# Altium footprint library BLDC_Motor_Driver.PcbLib: 122 footprints (part 8 of 8)
Each footprint in its own frame and in the unit in brackets; x right, y up, seen from the top. Pads: shape width x height; smd on the part's side, far side on the other; paste and mask are expansions set on the pad; w line width, h text height; cw(c..) or ccw(c..) is an arc to the next point about the centre after c.
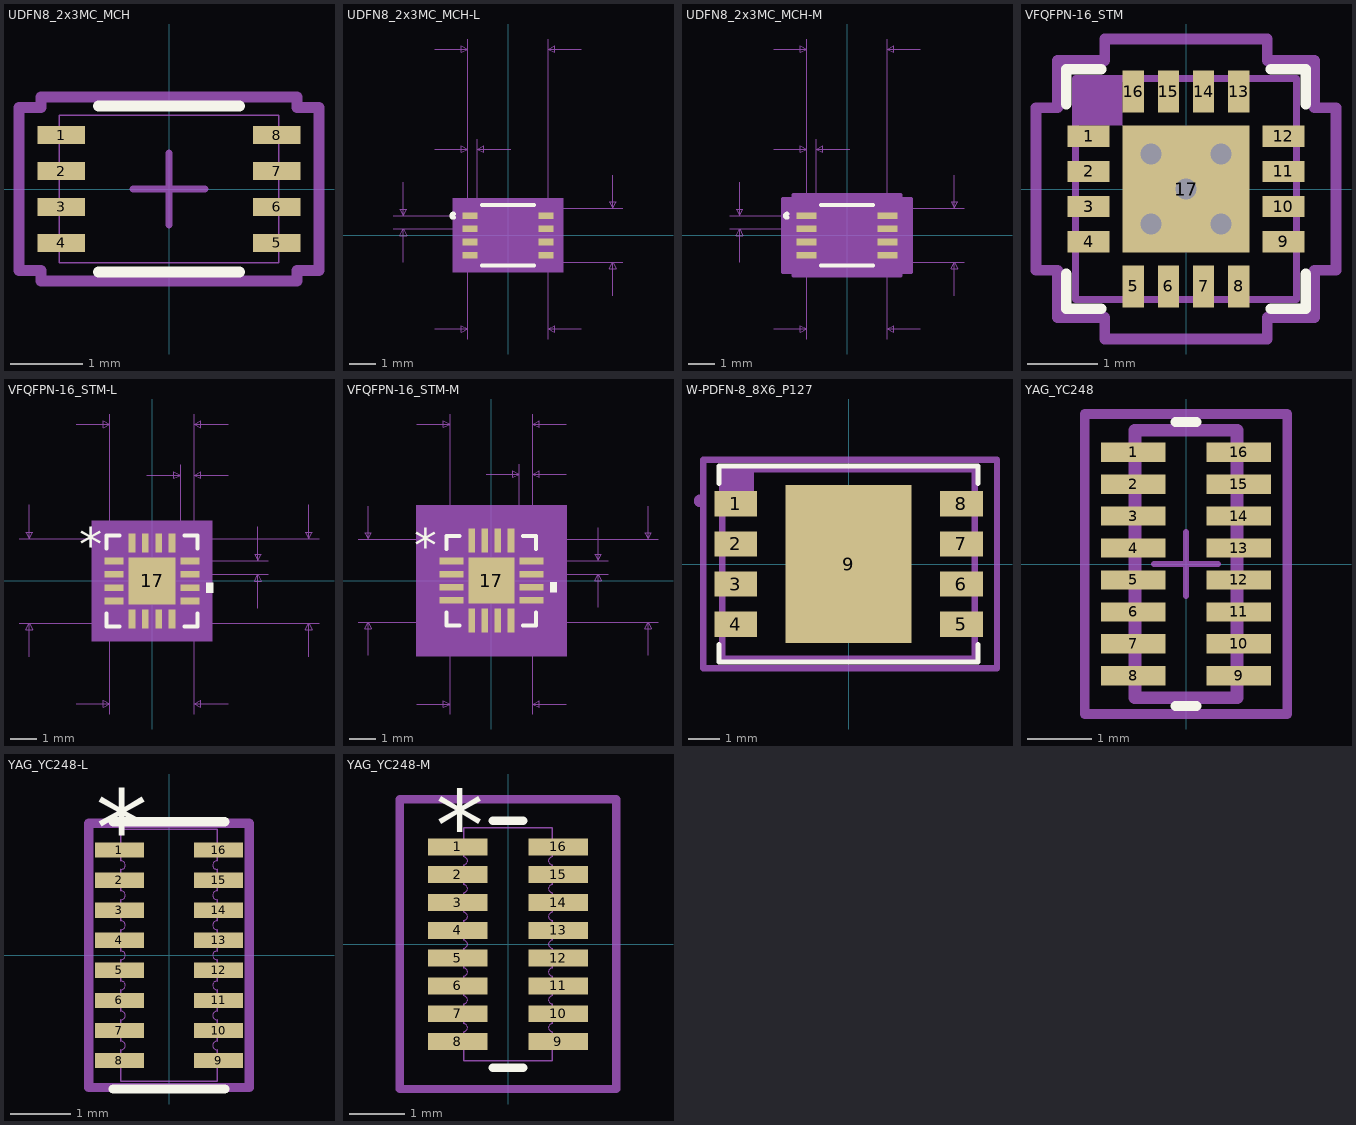
[diagram p7: the footprints below, top view; thin cyan lines are the x and y axes]

## UDFN8_2x3MC_MCH [mil] "8-UFDFN Exposed Pad"
pads (8):
  rect 26x10 smd: 1(-59.04,29.53) 2(-59.04,9.84) 3(-59.04,-9.84) 4(-59.04,-29.53) 5(59.04,-29.53) 6(59.04,-9.84) 7(59.04,9.84) 8(59.04,29.53)
Top Overlay:
  lines w6: -38.66,-45.35 38.66,-45.35 ; -38.66,45.35 38.66,45.35
  text "." at -90.55,35.43 h39.37
3D Body TOP:
  lines w1: -60.04,-40.35 60.04,-40.35 60.04,40.35 -60.04,40.35 -60.04,-40.35
Courtyard TOP:
  lines w3.94: -19.68,0 19.68,0 ; 0,-19.68 0,19.68
  lines w6: -82.04,-44.53 -82.04,44.53 -70.04,44.53 -70.04,50.35 70.04,50.35 70.04,44.53 82.04,44.53 82.04,-44.53 70.04,-44.53 70.04,-50.35 -70.04,-50.35 -70.04,-44.53 -82.04,-44.53
3D body "UDFN8_2x3MC_MCH.step": height 18.74, standoff 0, extent -60.04,-40.36 60.04,40.35

## UDFN8_2x3MC_MCH-L [mil]
pads (8):
  rect 22x10 smd paste+0 mask+0: 1(-57.04,29.53) 2(-57.04,9.84) 3(-57.04,-9.84) 4(-57.04,-29.53) 5(57.04,-29.53) 6(57.04,-9.84) 7(57.04,9.84) 8(57.04,29.53)
Top Overlay:
  lines w6: -81.14,26.62 cw(c-81.88,29.53) -81.14,32.43 ; -38.66,-45.35 38.66,-45.35 ; -38.66,45.35 38.66,45.35
Mechanical 5:
  region: 83.04,-55.35 -83.04,-55.35 -83.04,55.35 83.04,55.35
Mechanical 7:
  lines w1: -172.04,9.84 -57.04,9.84 ; -172.04,29.53 -57.04,29.53 ; -157.04,-40.16 -157.04,9.84 ; -157.04,79.53 -157.04,29.53 ; -110.04,-140.35 -60.04,-140.35 ; -110.04,129.53 -60.04,129.53 ; -110.04,279.53 -60.04,279.53 ; -60.04,-155.35 -60.04,-40.35 ; -60.04,144.53 -60.04,29.53 -60.04,294.53 ; -46.04,29.53 -46.04,144.53 ; 3.96,129.53 -46.04,129.53 ; 60.04,-155.35 60.04,-40.35 172.04,-40.35 ; 60.04,29.53 60.04,294.53 ; 60.04,40.35 172.04,40.35 ; 110.04,-140.35 60.04,-140.35 ; 110.04,279.53 60.04,279.53 ; 157.04,-90.35 157.04,-40.35 ; 157.04,90.35 157.04,40.35 ; -157.04,9.84 -162.04,-0.16 -152.04,-0.16 -157.04,9.84 ; -157.04,29.53 -162.04,39.53 -152.04,39.53 -157.04,29.53 ; -60.04,-140.35 -70.04,-135.35 -70.04,-145.35 -60.04,-140.35 ; -60.04,129.53 -70.04,134.53 -70.04,124.53 -60.04,129.53 ; -60.04,279.53 -70.04,284.53 -70.04,274.53 -60.04,279.53 ; -46.04,129.53 -36.04,134.53 -36.04,124.53 -46.04,129.53 ; 60.04,-140.35 70.04,-135.35 70.04,-145.35 60.04,-140.35 ; 60.04,279.53 70.04,284.53 70.04,274.53 60.04,279.53 ; 157.04,-40.35 152.04,-50.35 162.04,-50.35 157.04,-40.35 ; 157.04,40.35 152.04,50.35 162.04,50.35 157.04,40.35
  text "Default Padstyle: RX22Y10D0T" at -350,-410.35 h50
  text "Alt 1 Padstyle: OX60Y90D30P" at -337.5,-590.35 h50
  text "Alt 2 Padstyle: OX90Y60D30P" at -337.5,-650.35 h50
  text "0.12in/3.05mm" at -81.25,299.53 h25
  text "0.014in/0.356mm" at -146.79,149.53 h25
  text "0.02in/0.5mm" at -327.04,7.18 h25
  text "0.081in/2.05mm" at 177.04,-12.5 h25
  text "0.12in/3.05mm" at -81.25,-185.35 h25
3D Body TOP:
  lines w0: -12,40.35 ccw(c0,40.35) 12,40.35
  lines w1: -60.04,-40.35 60.04,-40.35 60.04,40.35 -60.04,40.35 -60.04,-40.35
Courtyard TOP:
  region: -64.04,-38.53 -72.04,-38.53 -72.04,38.53 -64.04,38.53 -64.04,44.35 64.04,44.35 64.04,38.53 72.04,38.53 72.04,-38.53 64.04,-38.53 64.04,-44.35 -64.04,-44.35
  lines w6: -72.04,-38.53 -72.04,38.53 -64.04,38.53 -64.04,44.35 64.04,44.35 64.04,38.53 72.04,38.53 72.04,-38.53 64.04,-38.53 64.04,-44.35 -64.04,-44.35 -64.04,-38.53 -72.04,-38.53
3D body: height 10, standoff 0, extent 0,0 10,10

## UDFN8_2x3MC_MCH-M [mil]
pads (8):
  rect 30x10 smd paste+0 mask+0: 1(-61.04,29.53) 2(-61.04,9.84) 3(-61.04,-9.84) 4(-61.04,-29.53) 5(61.04,-29.53) 6(61.04,-9.84) 7(61.04,9.84) 8(61.04,29.53)
Top Overlay:
  lines w6: -89.14,26.62 cw(c-89.88,29.53) -89.14,32.43 ; -38.66,-45.35 38.66,-45.35 ; -38.66,45.35 38.66,45.35
Mechanical 5:
  region: 91.04,-55.35 -91.04,-55.35 -91.04,55.35 91.04,55.35
Mechanical 7:
  lines w1: -176.04,9.84 -61.04,9.84 ; -176.04,29.53 -61.04,29.53 ; -161.04,-40.16 -161.04,9.84 ; -161.04,79.53 -161.04,29.53 ; -110.04,-140.35 -60.04,-140.35 ; -110.04,129.53 -60.04,129.53 ; -110.04,279.53 -60.04,279.53 ; -60.04,-155.35 -60.04,-40.35 ; -60.04,144.53 -60.04,29.53 -60.04,294.53 ; -46.04,29.53 -46.04,144.53 ; 3.96,129.53 -46.04,129.53 ; 60.04,-155.35 60.04,-40.35 176.04,-40.35 ; 60.04,29.53 60.04,294.53 ; 60.04,40.35 176.04,40.35 ; 110.04,-140.35 60.04,-140.35 ; 110.04,279.53 60.04,279.53 ; 161.04,-90.35 161.04,-40.35 ; 161.04,90.35 161.04,40.35 ; -161.04,9.84 -156.04,-0.16 -166.04,-0.16 -161.04,9.84 ; -161.04,29.53 -156.04,39.53 -166.04,39.53 -161.04,29.53 ; -60.04,-140.35 -70.04,-145.35 -70.04,-135.35 -60.04,-140.35 ; -60.04,129.53 -70.04,124.53 -70.04,134.53 -60.04,129.53 ; -60.04,279.53 -70.04,274.53 -70.04,284.53 -60.04,279.53 ; -46.04,129.53 -36.04,124.53 -36.04,134.53 -46.04,129.53 ; 60.04,-140.35 70.04,-145.35 70.04,-135.35 60.04,-140.35 ; 60.04,279.53 70.04,274.53 70.04,284.53 60.04,279.53 ; 161.04,-40.35 166.04,-50.35 156.04,-50.35 161.04,-40.35 ; 161.04,40.35 166.04,50.35 156.04,50.35 161.04,40.35
  text "0.12in/3.05mm" at -81.25,-185.35 h25
  text "0.081in/2.05mm" at 181.04,-12.5 h25
  text "0.02in/0.5mm" at -331.04,7.18 h25
  text "0.014in/0.356mm" at -146.79,149.53 h25
  text "0.12in/3.05mm" at -81.25,299.53 h25
  text "Alt 2 Padstyle: OX90Y60D30P" at -337.5,-650.35 h50
  text "Alt 1 Padstyle: OX60Y90D30P" at -337.5,-590.35 h50
  text "Default Padstyle: RX30Y10D0T" at -350,-410.35 h50
3D Body TOP:
  lines w0: -12,40.35 ccw(c0,40.35) 12,40.35
  lines w1: -60.04,-40.35 -60.04,40.35 60.04,40.35 60.04,-40.35 -60.04,-40.35
Courtyard TOP:
  region: -80.04,-54.53 -96.04,-54.53 -96.04,54.53 -80.04,54.53 -80.04,60.35 80.04,60.35 80.04,54.53 96.04,54.53 96.04,-54.53 80.04,-54.53 80.04,-60.35 -80.04,-60.35
  lines w6: -96.04,-54.53 -80.04,-54.53 -80.04,-60.35 80.04,-60.35 80.04,-54.53 96.04,-54.53 96.04,54.53 80.04,54.53 80.04,60.35 -80.04,60.35 -80.04,54.53 -96.04,54.53 -96.04,-54.53
3D body: height 10, standoff 0, extent 0,0 10,10

## VFQFPN-16_STM [mm]
pads (17):
  rect 0.6x0.3 smd mask+0.05: 1(-1.385,0.75) 2(-1.385,0.25) 3(-1.385,-0.25) 4(-1.385,-0.75) 9(1.385,-0.75) 10(1.385,-0.25) 11(1.385,0.25) 12(1.385,0.75)
  rect 0.3x0.6 smd mask+0.05: 5(-0.75,-1.385) 6(-0.25,-1.385) 7(0.25,-1.385) 8(0.75,-1.385) 13(0.75,1.385) 14(0.25,1.385) 15(-0.25,1.385) 16(-0.75,1.385)
  rect 1.8x1.8 smd mask+0.05: 17(0,0)
via -0.5,0.5 diameter 0.605 hole 0.3
via 0.5,0.5 diameter 0.605 hole 0.3
via -0.5,-0.5 diameter 0.605 hole 0.3
via 0.5,-0.5 diameter 0.605 hole 0.3
via 0,0 diameter 0.605 hole 0.3
Top Overlay:
  lines w0.152: -1.702,-1.21 -1.702,-1.702 -1.21,-1.702 ; -1.702,1.21 -1.702,1.702 -1.21,1.702 ; 1.21,-1.702 1.702,-1.702 1.702,-1.21 ; 1.21,1.702 1.702,1.702 1.702,1.21
  text "." at -2.134,1 h0.5
TOP ASSY:
  rectangle: -1.575,0.9 -0.9,1.575
  lines w0.1: -1.575,-1.575 -1.575,1.575 1.575,1.575 1.575,-1.575 -1.575,-1.575
  text "'.Designator'" at -1,-0.2 h0.5
  text "." at -1.2,1.1 h0.5
Courtyard TOP:
  lines w0.1: -0.5,0 0.5,0 ; 0,-0.5 0,0.5
  lines w0.152: -2.134,-1.156 -2.134,1.156 -1.829,1.156 -1.829,1.829 -1.156,1.829 -1.156,2.134 1.156,2.134 1.156,1.829 1.829,1.829 1.829,1.156 2.134,1.156 2.134,-1.156 1.829,-1.156 1.829,-1.829 1.156,-1.829 1.156,-2.134 -1.156,-2.134 -1.156,-1.829 -1.829,-1.829 -1.829,-1.156 -2.134,-1.156
3D body "VFQFPN-16_STM.step": height 0.94, standoff 0, extent -1.575,-1.575 1.575,1.575

## VFQFPN-16_STM-L [mil]
pads (17):
  rect 28x10 smd paste+0 mask+0: 1(-56,29.53) 2(-56,9.84) 3(-56,-9.84) 4(-56,-29.53) 9(56,-29.53) 10(56,-9.84) 11(56,9.84) 12(56,29.53)
  rect 10x28 smd paste+0 mask+0: 5(-29.53,-56) 6(-9.84,-56) 7(9.84,-56) 8(29.53,-56) 13(29.53,56) 14(9.84,56) 15(-9.84,56) 16(-29.53,56)
  rect 69x69 smd paste+0 mask+0: 17(0,0)
Top Overlay:
  region: 80,-2.34 90,-2.34 90,-17.34 80,-17.34
  lines w6: -67,-47.63 -67,-67 -47.63,-67 ; -67,47.63 -67,67 -47.63,67 ; 47.63,-67 67,-67 67,-47.63 ; 47.63,67 67,67 67,47.63
  text "*" at -107.5,29.37 h50
Mechanical 5:
  region: 89,-89 -89,-89 -89,89 89,89
Mechanical 7:
  lines w1: -196,-62 62,-62 ; -196,62 62,62 62,-196 ; -181,-112 -181,-62 ; -181,112 -181,62 ; -112,-181 -62,-181 ; -112,231 -62,231 ; -62,-196 -62,62 ; -62,29.53 -62,246 ; -8,156 42,156 ; 29.53,-62 246,-62 ; 29.53,62 246,62 ; 42,29.53 42,171 ; 56,9.84 171,9.84 ; 56,29.53 171,29.53 ; 62,171 62,29.53 62,246 ; 112,-181 62,-181 ; 112,156 62,156 ; 112,231 62,231 ; 156,-40.16 156,9.84 ; 156,79.53 156,29.53 ; 231,-112 231,-62 ; 231,112 231,62 ; -181,-62 -176,-72 -186,-72 -181,-62 ; -181,62 -176,72 -186,72 -181,62 ; -62,-181 -72,-186 -72,-176 -62,-181 ; -62,231 -72,226 -72,236 -62,231 ; 42,156 32,151 32,161 42,156 ; 62,-181 72,-186 72,-176 62,-181 ; 62,156 72,151 72,161 62,156 ; 62,231 72,226 72,236 62,231 ; 156,9.84 161,-0.16 151,-0.16 156,9.84 ; 156,29.53 161,39.53 151,39.53 156,29.53 ; 231,-62 236,-72 226,-72 231,-62 ; 231,62 236,72 226,72 231,62
  text "0.124in/3.15mm" at -87.5,-226 h25
  text "0.124in/3.15mm" at -376,-12.5 h25
  text "0.124in/3.15mm" at 251,-12.5 h25
  text "0.124in/3.15mm" at -87.5,251 h25
  text "0.02in/0.508mm" at -35.5,176 h25
  text "0.02in/0.5mm" at 176,7.18 h25
  text "Alt 2 Padstyle: OX90Y60D30P" at -337.5,-571 h50
  text "Alt 1 Padstyle: OX60Y90D30P" at -337.5,-511 h50
  text "Heat Tab Padstyle: RX69Y69D0T" at -362.5,-391 h50
  text "Default Padstyle: RX10Y28D0T" at -350,-331 h50
3D Body TOP:
  lines w1: -62,12 -12,62 ; -62,-62 -62,62 62,62 62,-62 -62,-62
  text "*" at -54.5,29.37 h50
Courtyard TOP:
  region: -39.53,-66 -66,-66 -66,-39.53 -74,-39.53 -74,39.53 -66,39.53 -66,66 -39.53,66 -39.53,74 39.53,74 39.53,66 66,66 66,39.53 74,39.53 74,-39.53 66,-39.53 66,-66 39.53,-66 39.53,-74 -39.53,-74
  lines w6: -74,-39.53 -74,39.53 -66,39.53 -66,66 -39.53,66 -39.53,74 39.53,74 39.53,66 66,66 66,39.53 74,39.53 74,-39.53 66,-39.53 66,-66 39.53,-66 39.53,-74 -39.53,-74 -39.53,-66 -66,-66 -66,-39.53 -74,-39.53
3D body: height 10, standoff 0, extent 0,0 10,10

## VFQFPN-16_STM-M [mil]
pads (17):
  rect 36x10 smd paste+0 mask+0: 1(-60,29.53) 2(-60,9.84) 3(-60,-9.84) 4(-60,-29.53) 9(60,-29.53) 10(60,-9.84) 11(60,9.84) 12(60,29.53)
  rect 10x36 smd paste+0 mask+0: 5(-29.53,-60) 6(-9.84,-60) 7(9.84,-60) 8(29.53,-60) 13(29.53,60) 14(9.84,60) 15(-9.84,60) 16(-29.53,60)
  rect 69x69 smd paste+0 mask+0: 17(0,0)
Top Overlay:
  region: 88,-2.34 98,-2.34 98,-17.34 88,-17.34
  lines w6: -67,-47.63 -67,-67 -47.63,-67 ; -67,47.63 -67,67 -47.63,67 ; 47.63,-67 67,-67 67,-47.63 ; 47.63,67 67,67 67,47.63
  text "*" at -115.5,29.37 h50
Mechanical 5:
  region: 113,-113 -113,-113 -113,113 113,113
Mechanical 7:
  lines w1: -200,-62 62,-62 ; -200,62 62,62 62,-200 ; -185,-112 -185,-62 ; -185,112 -185,62 ; -112,-185 -62,-185 ; -112,235 -62,235 ; -62,-200 -62,62 ; -62,29.53 -62,250 ; -8,160 42,160 ; 29.53,-62 250,-62 ; 29.53,62 250,62 ; 42,29.53 42,175 ; 60,9.84 175,9.84 ; 60,29.53 175,29.53 ; 62,175 62,29.53 62,250 ; 112,-185 62,-185 ; 112,160 62,160 ; 112,235 62,235 ; 160,-40.16 160,9.84 ; 160,79.53 160,29.53 ; 235,-112 235,-62 ; 235,112 235,62 ; -185,-62 -190,-72 -180,-72 -185,-62 ; -185,62 -190,72 -180,72 -185,62 ; -62,-185 -72,-180 -72,-190 -62,-185 ; -62,235 -72,240 -72,230 -62,235 ; 42,160 32,165 32,155 42,160 ; 62,-185 72,-180 72,-190 62,-185 ; 62,160 72,165 72,155 62,160 ; 62,235 72,240 72,230 62,235 ; 160,9.84 155,-0.16 165,-0.16 160,9.84 ; 160,29.53 155,39.53 165,39.53 160,29.53 ; 235,-62 230,-72 240,-72 235,-62 ; 235,62 230,72 240,72 235,62
  text "Default Padstyle: RX10Y36D0T" at -350,-335 h50
  text "Heat Tab Padstyle: RX69Y69D0T" at -362.5,-395 h50
  text "Alt 1 Padstyle: OX60Y90D30P" at -337.5,-515 h50
  text "Alt 2 Padstyle: OX90Y60D30P" at -337.5,-575 h50
  text "0.02in/0.5mm" at 180,7.18 h25
  text "0.02in/0.508mm" at -35.5,180 h25
  text "0.124in/3.15mm" at -87.5,255 h25
  text "0.124in/3.15mm" at 255,-12.5 h25
  text "0.124in/3.15mm" at -380,-12.5 h25
  text "0.124in/3.15mm" at -87.5,-230 h25
3D Body TOP:
  lines w1: -62,12 -12,62 ; -62,-62 62,-62 62,62 -62,62 -62,-62
  text "*" at -54.5,29.37 h50
Courtyard TOP:
  region: -55.53,-82 -82,-82 -82,-55.53 -98,-55.53 -98,55.53 -82,55.53 -82,82 -55.53,82 -55.53,98 55.53,98 55.53,82 82,82 82,55.53 98,55.53 98,-55.53 82,-55.53 82,-82 55.53,-82 55.53,-98 -55.53,-98
  lines w6: -98,-55.53 -82,-55.53 -82,-82 -55.53,-82 -55.53,-98 55.53,-98 55.53,-82 82,-82 82,-55.53 98,-55.53 98,55.53 82,55.53 82,82 55.53,82 55.53,98 -55.53,98 -55.53,82 -82,82 -82,55.53 -98,55.53 -98,-55.53
3D body: height 10, standoff 0, extent 0,0 10,10

## W-PDFN-8_8X6_P127 [mm]
pads (9):
  rect 1.35x0.8 smd mask+0.05: 1(-3.575,1.905) 2(-3.575,0.635) 3(-3.575,-0.635) 4(-3.575,-1.905) 5(3.575,-1.905) 6(3.575,-0.635) 7(3.575,0.635) 8(3.575,1.905)
  rect 4x5 smd mask+0.05: 9(0,0)
Top Overlay:
  lines w0.152: -4.1,-2.54 -4.1,-3.1 4.1,-3.1 4.1,-2.54 ; -4.1,2.54 -4.1,3.1 4.1,3.1 4.1,2.54
  text "." at -4.7,2.5 h1
Mechanical 4:
  circle w0.2: c-4.7,2 r0.1
  lines w0.152: -4,-3 4,-3 4,3 -4,3 -4,-3
  text ".Designator" at -1.1,-0.2 h0.5
TOP ASSY:
  rectangle: -4,2 -3,3
  lines w0.2: -4,-3 4,-3 ; -4,-3 -4,3 ; -4,-3 4,-3 ; -4,-3 -4,3 ; -4,3 4,3 ; -4,3 4,3 ; 4,-3 4,3 ; 4,-3 4,3 ; 4,3 4,3
Courtyard TOP:
  lines w0.2: -0.635,0 0.635,0 ; 0,-0.635 0,0.635 ; -4.6,-3.3 -4.6,3.3 4.7,3.3 4.7,-3.3 -4.6,-3.3
3D body: height 0.8, standoff 0, extent -4.005,-3.005 4.005,3.005

## YAG_YC248 [mm]
pads (16):
  rect 1.016x0.3 smd: 1(-0.826,1.75) 2(-0.826,1.25) 3(-0.826,0.75) 4(-0.826,0.25) 5(-0.826,-0.25) 6(-0.826,-0.75) 7(-0.826,-1.25) 8(-0.826,-1.75) 9(0.826,-1.75) 10(0.826,-1.25) 11(0.826,-0.75) 12(0.826,-0.25) 13(0.826,0.25) 14(0.826,0.75) 15(0.826,1.25) 16(0.826,1.75)
Top Overlay:
  lines w0.152: -0.163,-2.222 0.163,-2.222 ; -0.163,2.222 0.163,2.222
3D Body TOP:
  lines w0: -0.8,-1.572 ccw(c-0.8,-1.5) -0.8,-1.428 ; -0.8,-1.072 ccw(c-0.8,-1) -0.8,-0.928 ; -0.8,-0.572 ccw(c-0.8,-0.5) -0.8,-0.428 ; -0.8,-0.072 ccw(c-0.8,0) -0.8,0.072 ; -0.8,0.428 ccw(c-0.8,0.5) -0.8,0.572 ; -0.8,0.928 ccw(c-0.8,1) -0.8,1.072 ; -0.8,1.428 ccw(c-0.8,1.5) -0.8,1.572 ; 0.8,-1.572 cw(c0.8,-1.5) 0.8,-1.428 ; 0.8,-1.072 cw(c0.8,-1) 0.8,-0.928 ; 0.8,-0.572 cw(c0.8,-0.5) 0.8,-0.428 ; 0.8,-0.072 cw(c0.8,0) 0.8,0.072 ; 0.8,0.428 cw(c0.8,0.5) 0.8,0.572 ; 0.8,0.928 cw(c0.8,1) 0.8,1.072 ; 0.8,1.428 cw(c0.8,1.5) 0.8,1.572
TOP ASSY:
  lines w0.2: -0.8,-2.096 0.8,-2.096 0.8,2.096 -0.8,2.096 -0.8,-2.096
  text "'.Designator'" at 0.254,-0.635 h0.5
Courtyard TOP:
  lines w0.1: -0.5,0 0.5,0 ; 0,-0.5 0,0.5
  lines w0.152: -1.587,-2.349 1.587,-2.349 1.587,2.349 -1.587,2.349 -1.587,-2.349
3D body "YAG_YC248.step": height 0.56, standoff 0, extent -0.8,-2.096 0.8,2.096

## YAG_YC248-L [mil]
pads (16):
  rect 32x10 smd paste+0 mask+0: 1(-32.5,68.9) 2(-32.5,49.21) 3(-32.5,29.53) 4(-32.5,9.84) 5(-32.5,-9.84) 6(-32.5,-29.53) 7(-32.5,-49.21) 8(-32.5,-68.9) 9(32.5,-68.9) 10(32.5,-49.21) 11(32.5,-29.53) 12(32.5,-9.84) 13(32.5,9.84) 14(32.5,29.53) 15(32.5,49.21) 16(32.5,68.9)
Top Overlay:
  lines w6: -36.5,-87.5 36.5,-87.5 ; -36.5,87.5 36.5,87.5
  text "*" at -48,58.9 h50
3D Body TOP:
  lines w0: -31.5,-61.9 ccw(c-31.5,-59.06) -31.5,-56.21 ; -31.5,-42.21 ccw(c-31.5,-39.37) -31.5,-36.53 ; -31.5,-22.53 ccw(c-31.5,-19.68) -31.5,-16.84 ; -31.5,-2.84 ccw(c-31.5,0) -31.5,2.84 ; -31.5,16.84 ccw(c-31.5,19.69) -31.5,22.53 ; -31.5,36.53 ccw(c-31.5,39.37) -31.5,42.21 ; -31.5,56.21 ccw(c-31.5,59.06) -31.5,61.9 ; 31.5,-61.9 cw(c31.5,-59.06) 31.5,-56.21 ; 31.5,-42.21 cw(c31.5,-39.37) 31.5,-36.53 ; 31.5,-22.53 cw(c31.5,-19.68) 31.5,-16.84 ; 31.5,-2.84 cw(c31.5,0) 31.5,2.84 ; 31.5,16.84 cw(c31.5,19.69) 31.5,22.53 ; 31.5,36.53 cw(c31.5,39.37) 31.5,42.21 ; 31.5,56.21 cw(c31.5,59.06) 31.5,61.9
  lines w1: -31.5,-61.9 -31.5,-75.9 -31.5,-82.5 31.5,-82.5 31.5,-75.9 31.5,-61.9 ; -31.5,-56.21 -31.5,-42.21 ; -31.5,-36.53 -31.5,-22.53 ; -31.5,-16.84 -31.5,-2.84 ; -31.5,2.84 -31.5,16.84 ; -31.5,22.53 -31.5,36.53 ; -31.5,42.21 -31.5,56.21 ; -31.5,61.9 -31.5,75.9 -31.5,82.5 31.5,82.5 31.5,75.9 31.5,61.9 ; 31.5,-56.21 31.5,-42.21 ; 31.5,-36.53 31.5,-22.53 ; 31.5,-16.84 31.5,-2.84 ; 31.5,2.84 31.5,16.84 ; 31.5,22.53 31.5,36.53 ; 31.5,42.21 31.5,56.21
  text "*" at -34,43.9 h50
Courtyard TOP:
  lines w6: -52.5,-86.5 -52.5,86.5 52.5,86.5 52.5,-86.5 -52.5,-86.5
3D body "YAG_YC248-L.step": height 22.05, standoff 0, extent -31.49,-82.51 31.51,82.53

## YAG_YC248-M [mil]
pads (16):
  rect 42x12 smd paste+0 mask+0: 1(-35.5,68.9) 2(-35.5,49.21) 3(-35.5,29.53) 4(-35.5,9.84) 5(-35.5,-9.84) 6(-35.5,-29.53) 7(-35.5,-49.21) 8(-35.5,-68.9) 9(35.5,-68.9) 10(35.5,-49.21) 11(35.5,-29.53) 12(35.5,-9.84) 13(35.5,9.84) 14(35.5,29.53) 15(35.5,49.21) 16(35.5,68.9)
Top Overlay:
  lines w6: -10.92,-87.5 10.92,-87.5 ; -10.92,87.5 10.92,87.5
  text "*" at -51,59.9 h50
3D Body TOP:
  lines w0: -31.5,-61.9 ccw(c-31.5,-59.06) -31.5,-56.21 ; -31.5,-42.21 ccw(c-31.5,-39.37) -31.5,-36.53 ; -31.5,-22.53 ccw(c-31.5,-19.68) -31.5,-16.84 ; -31.5,-2.84 ccw(c-31.5,0) -31.5,2.84 ; -31.5,16.84 ccw(c-31.5,19.69) -31.5,22.53 ; -31.5,36.53 ccw(c-31.5,39.37) -31.5,42.21 ; -31.5,56.21 ccw(c-31.5,59.06) -31.5,61.9 ; 31.5,-61.9 cw(c31.5,-59.06) 31.5,-56.21 ; 31.5,-42.21 cw(c31.5,-39.37) 31.5,-36.53 ; 31.5,-22.53 cw(c31.5,-19.68) 31.5,-16.84 ; 31.5,-2.84 cw(c31.5,0) 31.5,2.84 ; 31.5,16.84 cw(c31.5,19.69) 31.5,22.53 ; 31.5,36.53 cw(c31.5,39.37) 31.5,42.21 ; 31.5,56.21 cw(c31.5,59.06) 31.5,61.9
  lines w1: -31.5,-61.9 -31.5,-75.9 -31.5,-82.5 31.5,-82.5 31.5,-75.9 31.5,-61.9 ; -31.5,-56.21 -31.5,-42.21 ; -31.5,-36.53 -31.5,-22.53 ; -31.5,-16.84 -31.5,-2.84 ; -31.5,2.84 -31.5,16.84 ; -31.5,22.53 -31.5,36.53 ; -31.5,42.21 -31.5,56.21 ; -31.5,61.9 -31.5,75.9 -31.5,82.5 31.5,82.5 31.5,75.9 31.5,61.9 ; 31.5,-56.21 31.5,-42.21 ; 31.5,-36.53 31.5,-22.53 ; 31.5,-16.84 31.5,-2.84 ; 31.5,2.84 31.5,16.84 ; 31.5,22.53 31.5,36.53 ; 31.5,42.21 31.5,56.21
  text "*" at -34,44.9 h50
Courtyard TOP:
  lines w6: -76.5,-102.5 -76.5,102.5 76.5,102.5 76.5,-102.5 -76.5,-102.5
3D body "YAG_YC248-M.step": height 22.05, standoff 0, extent -31.49,-82.51 31.5,82.52